# Altium schematic symbol library 4GMODULE.SCHLIB: 37 symbols
Pins are listed as number, name and electrical type; pins without a type are passive.

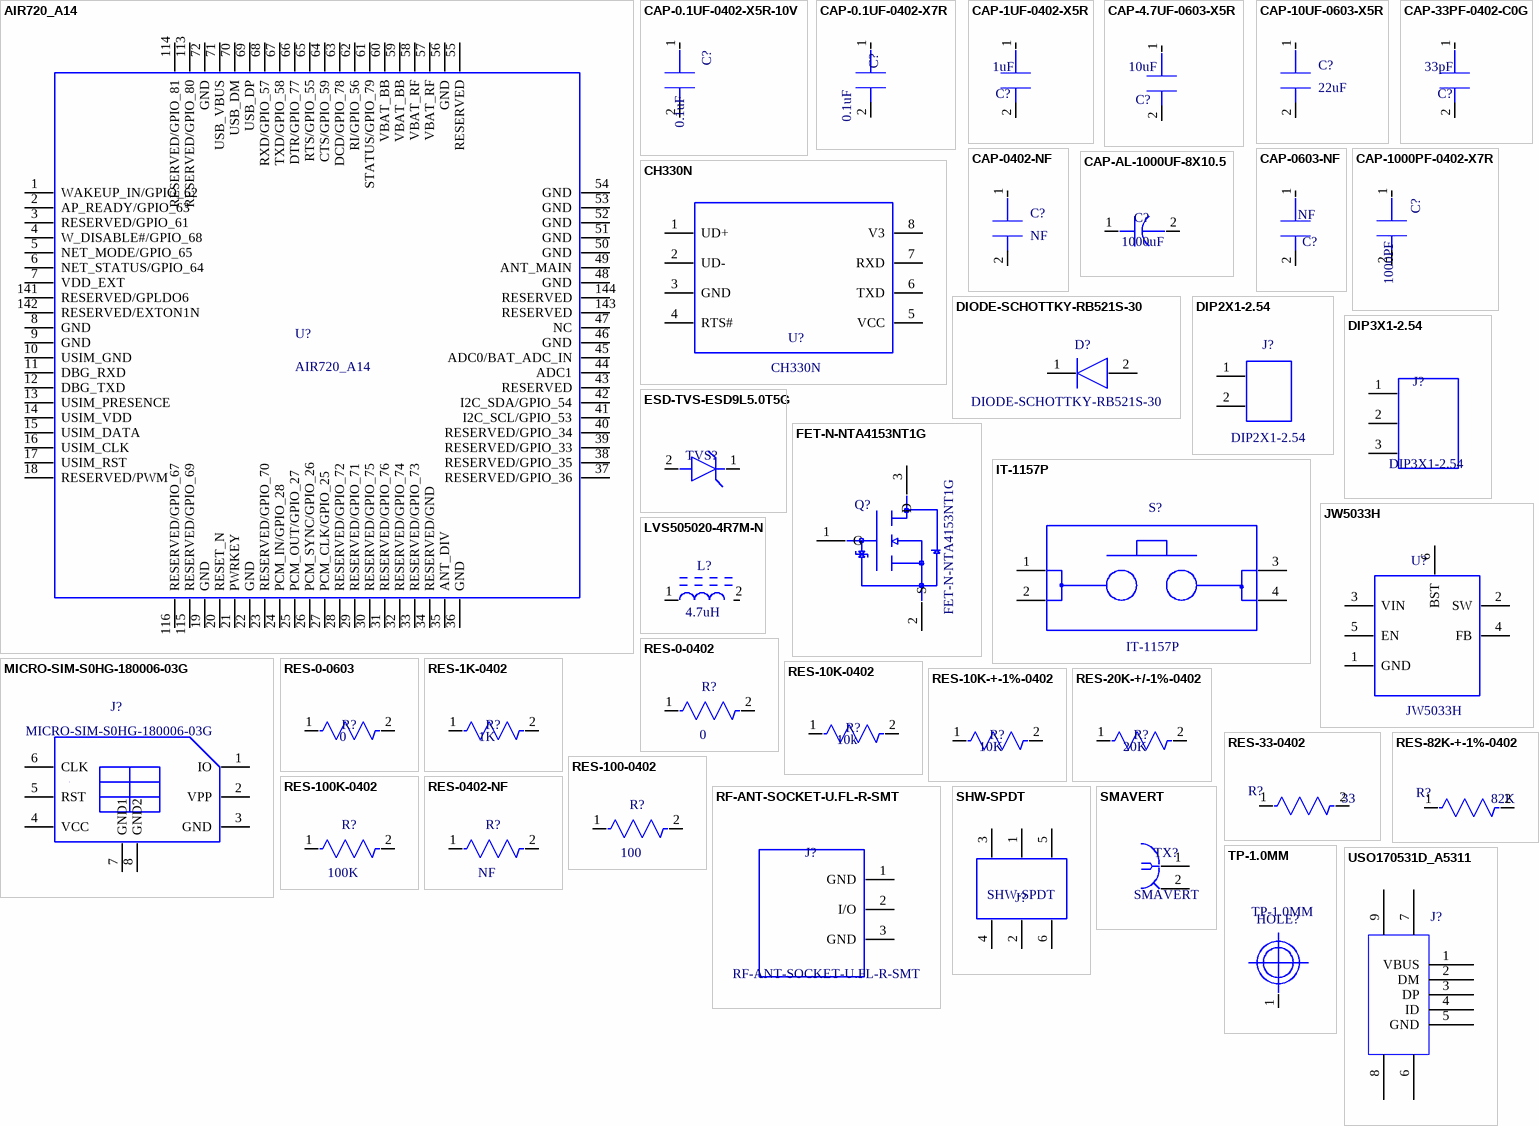
[diagram p0: symbols AIR720_A14 to USO170531D_A5311]

## AIR720_A14
designator U?
PCB DECAL: AIR726
footprint AIR726-A
pins: 1 WAKEUP_IN/GPIO_62, 2 AP_READY/GPIO_63, 3 RESERVED/GPIO_61, 4 W_DISABLE#/GPIO_68, 5 NET_MODE/GPIO_65, 6 NET_STATUS/GPIO_64, 7 VDD_EXT, 8 GND, 9 GND, 10 USIM_GND, 11 DBG_RXD, 12 DBG_TXD, 13 USIM_PRESENCE, 14 USIM_VDD, 15 USIM_DATA, 16 USIM_CLK, 17 USIM_RST, 18 RESERVED/PWM, 19 GND, 20 RESET_N, 21 PWRKEY, 22 GND, 23 RESERVED/GPIO_70, 24 PCM_IN/GPIO_28, 25 PCM_OUT/GPIO_27, 26 PCM_SYNC/GPIO_26, 27 PCM_CLK/GPIO_25, 28 RESERVED/GPIO_72, 29 RESERVED/GPIO_71, 30 RESERVED/GPIO_75, 31 RESERVED/GPIO_76, 32 RESERVED/GPIO_74, 33 RESERVED/GPIO_73, 34 RESERVED/GND, 35 ANT_DIV, 36 GND, 37 RESERVED/GPIO_36, 38 RESERVED/GPIO_35, 39 RESERVED/GPIO_33, 40 RESERVED/GPIO_34, 41 I2C_SCL/GPIO_53, 42 I2C_SDA/GPIO_54, 43 RESERVED, 44 ADC1, 45 ADC0/BAT_ADC_IN, 46 GND, 47 NC, 48 GND, 49 ANT_MAIN, 50 GND, 51 GND, 52 GND, 53 GND, 54 GND, 55 RESERVED, 56 GND, 57 VBAT_RF, 58 VBAT_RF, 59 VBAT_BB, 60 VBAT_BB, 61 STATUS/GPIO_79, 62 RI/GPIO_56, 63 DCD/GPIO_78, 64 CTS/GPIO_59, 65 RTS/GPIO_55, 66 DTR/GPIO_77, 67 TXD/GPIO_58, 68 RXD/GPIO_57, 69 USB_DP, 70 USB_DM, 71 USB_VBUS, 72 GND, 85 GND (power) hidden to GND, 86 GND (power) hidden to GND, 87 GND (power) hidden to GND, 88 GND (power) hidden to GND, 89 GND (power) hidden to GND, 90 GND (power) hidden to GND, 91 GND (power) hidden to GND, 92 GND (power) hidden to GND, 93 GND (power) hidden to GND, 94 GND (power) hidden to GND, 95 GND (power) hidden to GND, 96 GND (power) hidden to GND, 97 GND (power) hidden to GND, 98 GND (power) hidden to GND, 99 GND (power) hidden to GND, 100 GND (power) hidden to GND, 101 GND (power) hidden to GND, 102 GND (power) hidden to GND, 103 GND (power) hidden to GND, 104 GND (power) hidden to GND, 105 GND (power) hidden to GND, 106 GND (power) hidden to GND, 107 GND (power) hidden to GND, 108 GND (power) hidden to GND, 109 GND (power) hidden to GND, 110 GND (power) hidden to GND, 111 GND (power) hidden to GND, 112 GND (power) hidden to GND, 113 RESERVED/GPIO_80, 114 RESERVED/GPIO_81, 115 RESERVED/GPIO_69, 116 RESERVED/GPIO_67, 141 RESERVED/GPLDO6, 142 RESERVED/EXTON1N, 143 RESERVED, 144 RESERVED

## CAP-0.1UF-0402-X5R-10V
designator C?  value 0.1uF  (hidden comment: CAP-0.1UF-0402-X5R-10V)
CAP CER X5R/X7R;0.1uF;+/-10%;10V;0402;0.5mm;ROHS; Manufacture 1: Murata;Yageo;Walsin;Eyang; Manufacture 1 P/N: GRM155R61A104K****;GRM155R71A104K****;CC0402KRX5R6BB104;0402X104K100CT;C0402X5R104K100N*; Geometry.Height: 0.55mm; Serial Number: 80214720001; PCB DECAL: SC0402; Tolerance: +/-10%
pins: 1, 2

## CAP-0.1UF-0402-X7R
designator C?  value 0.1uF  (hidden comment: CAP-0.1UF-0402-X7R)
CAP CER X7R;0.1uF;+/-10%;16V;0402;0.5mm;ROHS; Manufacture 1: MURATA;Walsin;Yageo;Eyang;; Manufacture 1 P/N: GRM155R71C104K****;0402X104K160CT;CC0402KRX7R7BB104;C0402X5R104K160N*; Geometry.Height: 0.55mm; Serial Number: 80214730006; PCB DECAL: SC0402; Tolerance: +/-10%
pins: 1, 2

## CAP-1UF-0402-X5R
designator C?  value 1uF  (hidden comment: CAP-1UF-0402-X5R)
CAP CER X5R;1uF;+/-10%;6.3V;0402;0.5mm;ROHS; Manufacture 1 P/N: GRM155R60J105K****;CC0402KRX5R5BB105;C1005X5R0J105KT;JMK105BJ105KV-F;ECJ0EB0J105K;0402X105K6R3CT;CL05A105KQ5NNNC; Manufacture 1: Murata;Yageo;TDK;Taiyo Yuden;Panasonic;Walsin;Samsung; Serial Number: 80214710001; Geometry.Height: 0.55mm; PCB DECAL: SC0402; Tolerance: +/-10%
pins: 1, 2

## CAP-4.7UF-0603-X5R
designator C?  value 10uF  (hidden comment: CAP-4.7UF-0603-X5R)
CAP CER X5R;4.7uF;+/-10%;6.3V;0603;0.8mm;ROHS; Manufacture 1: Murata;TDK;Yageo;Taiyo Yuden;Panasonic;Kyocera;Samsung;; Manufacture 1 P/N: GRM188R60J475K****;C1608X5R0J475K;CC0603KRX5R5BB475;JMK107BJ475KA-T;ECJ1VB0J475K;CV105X5R475K06ATCL10A475KQ8NNNC;; Geometry.Height: 0.95mm; Serial Number: 80216710002; PCB DECAL: SC0603; Tolerance: +/-10%
pins: 1, 2

## CAP-10UF-0603-X5R
designator C?  value 22uF  (hidden comment: CAP-10UF-0603-X5R)
CAP CER X5R;10uF;+/-20%;6.3V;0603;0.8mm;ROHS; Manufacture 1: Panasonic;TDK;Murata;Kyocera;Yageo;Taiyo Yuden;Samsung; Manufacture 1 P/N: ECJ1VB0J106M;C1608X5R0J106MT0A0E;GRM188R60J106M****;CV105X5R106M06AT;CC0603MRX5R5BB106;JMK107BJ106MA-T;CL10A106MQ8NNNC;; Geometry.Height: 0.95mm; Serial Number: 80216810001; PCB DECAL: SC0603; Tolerance: +/-20%
pins: 1, 2

## CAP-33PF-0402-C0G
designator C?  value 33pF  (hidden comment: CAP-33PF-0402-C0G)
CAP CER C0G;33PF;+/-5%;50V;0402;0.5mm;ROHS; Manufacture 1: MURATA;Yageo;Eyang; Manufacture 1 P/N: GRM1555C1H330J****;CC0402JRNPO9BN330;C0402C0G330J500N*; Geometry.Height: 0.55mm; Serial Number: 80214650008; PCB DECAL: SC0402; Tolerance: +/-5%
pins: 1, 2

## CAP-0402-NF
designator C?  value NF  (hidden comment: CAP-0402-NF)
NF; Geometry.Height: 0.55mm; PCB DECAL: SC0402-NF; Serial Number: NF; Manufacture 1: NF; Manufacture 1 P/N: NF
pins: 1, 2

## CAP-0603-NF
designator C?  value NF  (hidden comment: CAP-0603-NF)
NF; Geometry.Height: 0.95mm; Tolerance: +/-10%; PCB DECAL: SC0603-NF; Serial Number: NF; Manufacture 1: NF; Manufacture 1 P/N: NF
pins: 1, 2

## CAP-1000PF-0402-X7R
designator C?  value 1000PF  (hidden comment: CAP-1000PF-0402-X7R)
CAP CER X7R;1000PF;+/-10%;50V;0402;0.5mm;ROHS; Manufacture 1 P/N: GRM155R71H102K****;CC0402KRX7R9BB102;0402B102K500CT;C0402X7R102K500N*; Manufacture 1: MURATA;Yageo;Walsin;Eyang; Geometry.Height: 0.55mm; Serial Number: 80214750001; PCB DECAL: SC0402; Tolerance: +/-10%
pins: 1, 2

## CAP-AL-1000UF-8X10.5
designator C?  value 1000uF  (hidden comment: CAP-AL-1000UF-8X10.5)
贴片电解电容,1000uF/10V; Geometry.Height: 10.4 mm; PCB DECAL: CAP-AL-1000UF-8X10.5
footprint CAP-AL-1000UF-8X10.5
pins: 1, 2

## CH330N
designator U?
EM78P153B-SOP8; Manufacture: ELAN; Geometry.Height: 1.75mm; PCB DECAL: EM78P153B-SOP8
pins: 1 UD+, 2 UD-, 3 GND, 4 RTS#, 5 VCC, 6 TXD, 7 RXD, 8 V3

## DIODE-SCHOTTKY-RB521S-30
designator D?
Schottky Diode;30V;200mA/0.6V;SOD-523;0.7mm;ROHS; Manufacture 1: Panjit;WILL;KEC;Onsemi;; Manufacture 1 P/N: RB521S30T1G;KDR730E;RB521S30-2/TR;RB521S30/TR; Serial Number: 81210000004; PCB DECAL: SOD523(RB521S); Geometry.Height: 0.7mm
footprint SOD523(RB521S)
pins: 1, 2

## DIP2X1-2.54
designator J?
Geometry.Height: 2mm; PCB DECAL: DIP2X1-2.54
footprint DIP2X1-2.54
pins: 1, 2

## DIP3X1-2.54
designator J?
Geometry.Height: 2mm; PCB DECAL: DIP3X1-2.54
pins: 1, 2, 3

## ESD-TVS-ESD9L5.0T5G
designator TVS?  (value not drawn)
TVS;5V;0.5pF;SOD-923;ROHS; Manufacture 1: Onsemi;Will(韦尔)();; Manufacture 1 P/N: ESD9L5.0ST5G;ESD9X5VU-2/TR; PCB DECAL: SOD-923-ESD9L5.0T5G; Geometry.Height: 0.4mm; Serial Number: 81121000012
pins: 1, 2

## FET-N-NTA4153NT1G
designator Q?
MOSFET;N-Ch; Manufacture 1 P/N: WNM2030; Geometry.Height: 0.55mm; PCB DECAL: SOT-723
footprint SC75-3(NTA4153NT1G)
pins: 1 G, 2 S, 3 D

## IT-1157P
designator S?
Geometry.Height: 3.1 mm; PCB DECAL: IT-1157P
pins: 1, 2, 3, 4, 5 GND (power) hidden to GND

## JW5033H
designator U?
Geometry.Height: 1.1mm; PCB DECAL: JW5033S
footprint JW5033S
pins: 1 GND, 2 SW, 3 VIN, 4 FB, 5 EN, 6 BST

## LVS505020-4R7M-N
designator L?  value 4.7uH  (hidden comment: LVS505020-4R7M-N)
Manufacture 1: Chilisin(奇力新); Geometry.Height: 2.2 mm; PCB DECAL: LVS505020-4R7M-N
footprint LVS505020-4R7M-N
pins: 1, 2

## MICRO-SIM-S0HG-180006-03G
designator J?
1.8H掀盖 Micro SIM卡座;16.3*14.66*1.8mm; Manufacture 1: 深圳市精睿兴业科技有限公司; Geometry.Height: 1.8mm; Manufacture 1 P/N: S0HG-180006-03G; PCB DECAL: S0HG-180006-03G
footprint S0HG-180006-03G
pins: 1 IO, 2 VPP, 3 GND, 4 VCC, 5 RST, 6 CLK, 7 GND1, 8 GND2

## RES-0-0402
designator R?  value 0  (hidden comment: RES-0-0402)
RES FILM;0;1A;0402;0.4mm;ROHS; Manufacture 1: YAGEO; Manufacture 1 P/N: RC0402JR-070RL; Serial Number: 80114640001; PCB DECAL: SR0402; Geometry.Height: 0.4mm
pins: 1, 2

## RES-0-0603
designator R?  value 0  (hidden comment: RES-0-0603)
RES FILM;0;1A;0603;0.55mm;ROHS; Manufacture 1: YAGEO; Manufacture 1 P/N: RC0603JR-070RL; Serial Number: 80116630001; PCB DECAL: SR0603; Geometry.Height: 0.55mm
pins: 1, 2

## RES-1K-0402
designator R?  value 1K  (hidden comment: RES-1K-0402)
RES FILM;1K;+/-5%;1/16W;0402;0.4mm;ROHS; Manufacture 1 P/N: RC0402JR-071KL;WR04X102_JTL; Manufacture 1: YAGEO;Walsin; Geometry.Height: 0.40mm; Serial Number: 80114640003; PCB DECAL: SR0402; Tolerance: +/-5%
pins: 1, 2

## RES-10K-0402
designator R?  value 10k  (hidden comment: RES-10K-0402)
RES FILM;10K;+/-5%;1/16W;0402;0.4mm;ROHS; Manufacture 1 P/N: RC0402JR-0710KL;WR04X103_JTL; Manufacture 1: YAGEO;Walsin; Serial Number: 80114640004; PCB DECAL: SR0402; Geometry.Height: 0.4mm; Tolerance: +/-5%
pins: 1, 2

## RES-10K-+-1%-0402
designator R?  value 10K  (hidden comment: RES-10K-+-1%-0402)
RES FILM;10K;+/-1%;1/16W;0402;0.4mm;ROHS; Manufacture 1 P/N: RC0402FR-0710KL; Manufacture 1: YAGEO; Serial Number: 80114440009; PCB DECAL: SR0402; Geometry.Height: 0.4mm; Tolerance: +/-1%
pins: 1, 2

## RES-20K-+/-1%-0402
designator R?  value 20K  (hidden comment: RES-20K-+/-1%-0402)
RES FILM;20K;+/-1%;1/16W;0402;0.4mm;ROHS; Manufacture 1 P/N: RC0402FR-0720KL; Manufacture 1: YAGEO; Serial Number: 80114440008; PCB DECAL: SR0402; Geometry.Height: 0.4mm; Tolerance: +/-1%
pins: 1, 2

## RES-33-0402
designator R?  value 33  (hidden comment: RES-33-0402)
RES FILM;33;+/-5%;1/16W;0402;0.4mm;ROHS; Manufacture 1 P/N: RC0402JR-0733RL; Manufacture 1: YAGEO; Serial Number: 80114640011; PCB DECAL: SR0402; Geometry.Height: 0.4mm; Tolerance: +/-5%
pins: 1, 2

## RES-82K-+-1%-0402
designator R?  value 82K  (hidden comment: RES-82K-+-1%-0402)
RES FILM;82K;+/-1%;1/16W;0402;0.4mm;ROHS; Manufacture 1: YAGEO; Manufacture 1 P/N: RC0402FR-0782KL; Serial Number: 80114440040; PCB DECAL: SR0402; Geometry.Height: 0.4mm; Tolerance: +/-1%
pins: 1, 2

## RES-100-0402
designator R?  value 100  (hidden comment: RES-100-0402)
RES FILM;100;+/-5%;1/16W;0402;0.4mm;ROHS; Manufacture 1 P/N: RC0402JR-07100RL;WR04X101_JTL; Manufacture 1: YAGEO;Walsin; Serial Number: 80114640022; PCB DECAL: SR0402; Geometry.Height: 0.4mm; Tolerance: +/-5%
pins: 1, 2

## RES-100K-0402
designator R?  value 100K  (hidden comment: RES-100K-0402)
RES FILM;100K;+/-5%;1/16W;0402;0.4mm;ROHS; Manufacture 1: YAGEO;Walsin; Manufacture 1 P/N: RC0402JR-07100KL;WR04X104_JTL;; Geometry.Height: 0.40mm; Serial Number: 80114640005; PCB DECAL: SR0402; Tolerance: +/-5%
pins: 1, 2

## RES-0402-NF
designator R?  value NF  (hidden comment: RES-0402-NF)
NF; Geometry.Height: 0.4mm; Tolerance: +/-5%; PCB DECAL: SR0402-NF; Serial Number: NF; Manufacture 1 P/N: NF; Manufacture 1: NF
pins: 1, 2

## RF-ANT-SOCKET-U.FL-R-SMT
designator J?
RF CONNECTOR;3*3*1.25mm;ROHS; Part Number: 1120333002051; Manufacture 1: Hirose; Geometry.Height: 1.25mm; Serial Number: 80830000004; Manufacture 1 P/N: U.FL-R-SMT; PCB DECAL: RF-ANT-SOCKET-U.FL-R-SMT
footprint RF-ANT-SOCKET-U.FL-R-SMT
pins: 1 GND, 2 I/O, 3 GND

## SHW-SPDT
designator J?
Geometry.Height: 5.5mm; PCB DECAL: SHW-SPDT
pins: 1, 2, 3, 4, 5, 6

## SMAVERT
designator TX?
SMA Vertical Female Connector; Manufacturer: TE Connectivity; Manufacturer Part Number: 5-1814832-1; Value: 5-1814832-1; PCB DECAL: SMA-V; Distributor: Digikey; Distributor Part Number: A97594-ND; Package: Through Hole; RoHS: RoHS Compliant; Type: 5-1814832-1
pins: 1, 2, 3 GND (power) hidden to GND, 4 GND (power) hidden to GND, 5 GND (power) hidden to GND

## TP-1.0MM
designator HOLE?
TP-1mm; Geometry.Height: 0.05mm; PCB DECAL: TP-1MM
footprint TP-1MM
pins: 1

## USO170531D_A5311
designator J?  (value not drawn)
Geometry.Height: 2.35mm; PCB DECAL: USO170531D_A5311
footprint USO170531D_A5311
pins: 1 VBUS, 2 DM, 3 DP, 4 ID, 5 GND, 6, 7, 8, 9, 10 GND (power) hidden to GND, 11 GND (power) hidden to GND